# Altium schematic symbol library SwitchingReg.SchLib: 2 symbols
Pins are listed as number, name and electrical type; pins without a type are passive.

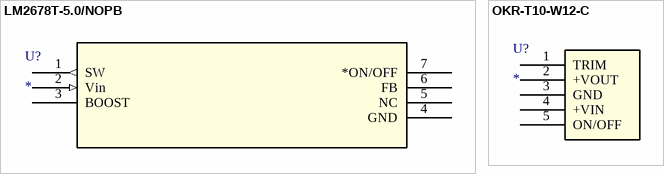
[diagram p0: symbols LM2678T-5.0/NOPB to OKR-T10-W12-C]

## LM2678T-5.0/NOPB
designator U?
Imported; Manufacturer_Part_Number: LM2678T-5.0/NOPB; Vendor: Texas Instruments; Built_By: EMA_UL_Team; C: Copyright (C) 2015 Accelerated Designs. All rights reserved; RefDes: RefDes; Type: DEV; Value: Value
footprint TA07B
pins: 1 SW (out), 2 Vin (in), 3 BOOST, 4 GND, 5 NC, 6 FB, 7 *ON/OFF

## OKR-T10-W12-C
designator U?
DC DC CONVERTER 0.591-6V 50W; Manufacturer_Part_Number: OKR-T/10-W12-C; Vendor: Murata Power Solutions Inc.; Built_By: Aksh; Supplier Part Number: 811-2180-ND
footprint OKR-T10-W12-C (DC DC CONVERTER 0.591-6V 50W)
pins: 1 TRIM (power), 2 +VOUT (power), 3 GND, 4 +VIN, 5 ON/OFF